# Altium footprint library Antenna_Helical.PcbLib: 1 footprints
Each footprint in its own frame and in the unit in brackets; x right, y up, seen from the top. Pads: shape width x height; smd on the part's side, far side on the other; paste and mask are expansions set on the pad; w line width, h text height; cw(c..) or ccw(c..) is an arc to the next point about the centre after c.
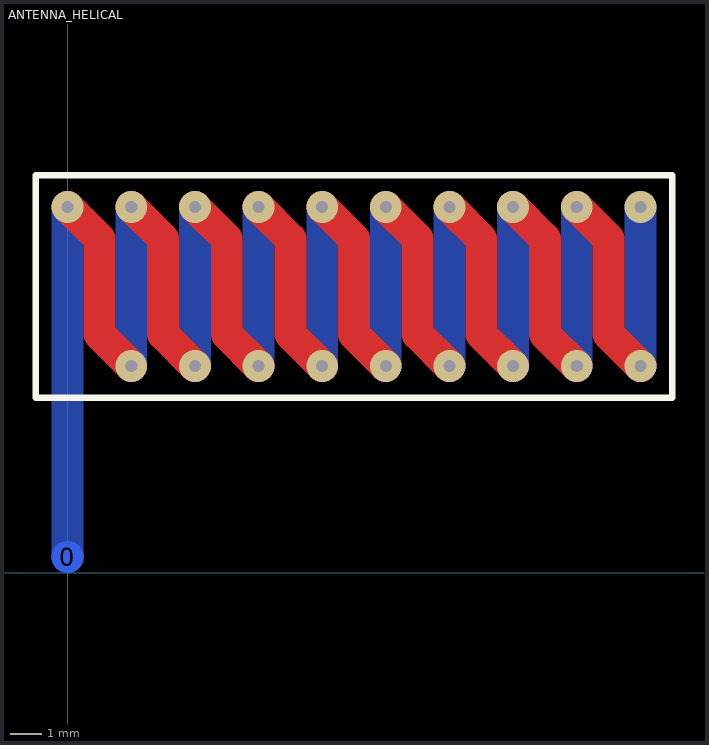
[diagram p0: the footprint, top view; thin cyan lines are the x and y axes]

## ANTENNA_HELICAL [mm] "868MHz Helical antenna"
pads (1):
  round 1 smd far side: 0(0,0.5)
via 18,11.5 diameter 1 hole 0.38
via 18,6.5 diameter 1 hole 0.38
via 16,11.5 diameter 1 hole 0.38
via 16,6.5 diameter 1 hole 0.38
via 14,11.5 diameter 1 hole 0.38
via 14,6.5 diameter 1 hole 0.38
via 12,11.5 diameter 1 hole 0.38
via 12,6.5 diameter 1 hole 0.38
via 10,11.5 diameter 1 hole 0.38
via 10,6.5 diameter 1 hole 0.38
via 8,11.5 diameter 1 hole 0.38
via 8,6.5 diameter 1 hole 0.38
via 6,11.5 diameter 1 hole 0.38
via 6,6.5 diameter 1 hole 0.38
via 4,11.5 diameter 1 hole 0.38
via 4,6.5 diameter 1 hole 0.38
via 2,11.5 diameter 1 hole 0.38
via 2,6.5 diameter 1 hole 0.38
via 0,11.5 diameter 1 hole 0.38
Top Layer:
  lines w1: 0,11.5 1,10.5 1,7.5 2,6.5 ; 2,11.5 3,10.5 3,7.5 4,6.5 ; 4,11.5 5,10.5 5,7.5 6,6.5 ; 6,11.5 7,10.5 7,7.5 8,6.5 ; 8,11.5 9,10.5 9,7.5 10,6.5 ; 10,11.5 11,10.5 11,7.5 12,6.5 ; 12,11.5 13,10.5 13,7.5 14,6.5 ; 14,11.5 15,10.5 15,7.5 16,6.5 ; 16,11.5 17,10.5 17,7.5 18,6.5
Bottom Layer:
  lines w1: 0,0.5 0,11.5 ; 2,6.5 2,11.5 ; 4,6.5 4,11.5 ; 6,6.5 6,11.5 ; 8,6.5 8,11.5 ; 10,6.5 10,11.5 ; 12,6.5 12,11.5 ; 14,6.5 14,11.5 ; 16,6.5 16,11.5 ; 18,6.5 18,11.5
Top Overlay:
  lines w0.2: -1,5.5 -1,12.5 19,12.5 19,5.5 -1,5.5